# EAGLE library part GAN_HALL16 (library maholli)
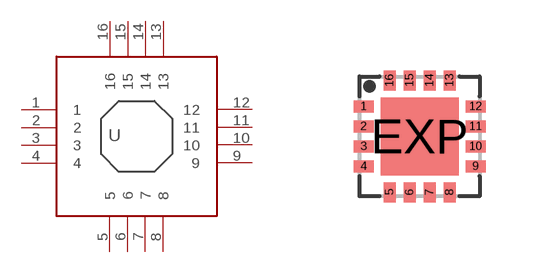
[diagram p6: symbol with the pads of QFN16; footprint QFN16]

Designator prefix U

## GAN_HALL16  [QFN16]
1  1
2  2
3  3
4  4
5  5
6  6
7  7
8  8
9  9
10  10
11  11
12  12
13  13
14  14
15  15
16  16

## Footprint QFN16 (pad centres in mm)
QFN 16 3x3 mm Source: www.hittite.com .. hmc492lp3.pdf
smd 0.5 x 0.3: 1 -1.4,0.75; 2 -1.4,0.25; 3 -1.4,-0.25; 4 -1.4,-0.75; 9 1.4,-0.75; 10 1.4,-0.25; 11 1.4,0.25; 12 1.4,0.75
smd 0.3 x 0.5: 5 -0.75,-1.4; 6 -0.25,-1.4; 7 0.25,-1.4; 8 0.75,-1.4; 13 0.75,1.4; 14 0.25,1.4; 15 -0.25,1.4; 16 -0.75,1.4
smd 1.95 x 1.95: EXP 0,0